# Altium footprint library Pulser Driver1.PcbLib: 50 footprints (part 1 of 4)
Each footprint in its own frame and in the unit in brackets; x right, y up, seen from the top. Pads: shape width x height; smd on the part's side, far side on the other; paste and mask are expansions set on the pad; w line width, h text height; cw(c..) or ccw(c..) is an arc to the next point about the centre after c.
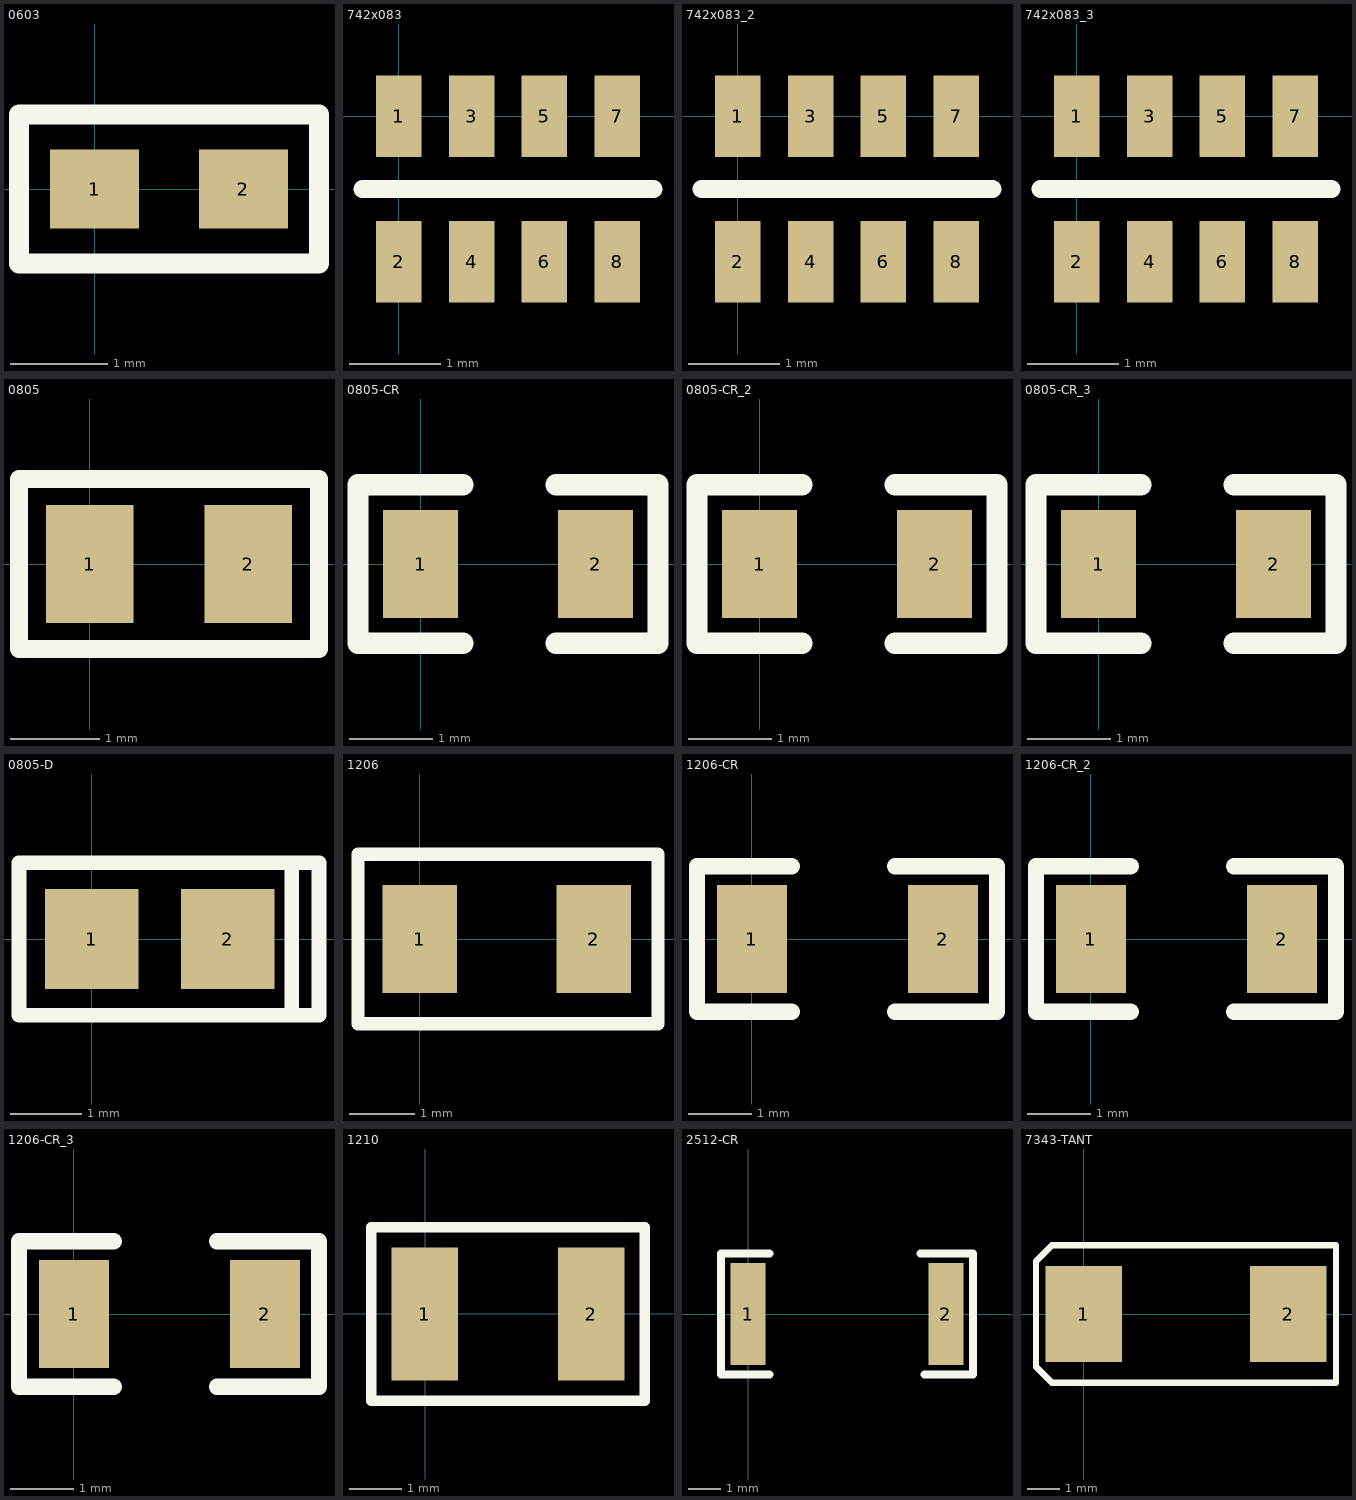
[diagram p0: the footprints below, top view; thin cyan lines are the x and y axes]

## 0603 [mil]
height 992.13
pads (2):
  rect 36x32 smd: 1(0,0) 2(60,0)
Top Overlay:
  lines w8: -30.5,-30 90.5,-30 90.5,30 -30.5,30 -30.5,-30

## 742x083 [mm] "742x083 4-Isolated Resistor Array"
height 0.55
pads (8):
  rect 0.5x0.9 smd: 1(0,0) 2(0,-1.6) 3(0.8,0) 4(0.8,-1.6) 5(1.6,0) 6(1.6,-1.6) 7(2.4,0) 8(2.4,-1.6)
Top Overlay:
  lines w0.203: -0.4,-0.8 2.8,-0.8

## 742x083_2 [mm]
pads (8):
  rect 0.5x0.9 smd: 1(0,0) 2(0,-1.6) 3(0.8,0) 4(0.8,-1.6) 5(1.6,0) 6(1.6,-1.6) 7(2.4,0) 8(2.4,-1.6)
Top Overlay:
  lines w0.203: -0.4,-0.8 2.8,-0.8

## 742x083_3 [mm]
pads (8):
  rect 0.5x0.9 smd: 1(0,0) 2(0,-1.6) 3(0.8,0) 4(0.8,-1.6) 5(1.6,0) 6(1.6,-1.6) 7(2.4,0) 8(2.4,-1.6)
Top Overlay:
  lines w0.203: -0.4,-0.8 2.8,-0.8

## 0805 [mil]
height 992.13
pads (2):
  rect 38.5x52 smd: 1(0,0) 2(70,0)
Top Overlay:
  lines w8: -31.25,-37.5 101.25,-37.5 101.25,37.5 -31.25,37.5 -31.25,-37.5

## 0805-CR [mm]
pads (2):
  rect 0.9x1.3 smd: 1(0,0) 2(2.1,0)
Top Overlay:
  lines w0.254: 0.508,-0.95 -0.75,-0.95 -0.75,0.95 0.508,0.95 ; 1.625,-0.95 2.85,-0.95 2.85,0.95 1.625,0.95

## 0805-CR_2 [mm]
pads (2):
  rect 0.9x1.3 smd: 1(0,0) 2(2.1,0)
Top Overlay:
  lines w0.254: 0.508,-0.95 -0.75,-0.95 -0.75,0.95 0.508,0.95 ; 1.625,-0.95 2.85,-0.95 2.85,0.95 1.625,0.95

## 0805-CR_3 [mm]
pads (2):
  rect 0.9x1.3 smd: 1(0,0) 2(2.1,0)
Top Overlay:
  lines w0.254: 0.508,-0.95 -0.75,-0.95 -0.75,0.95 0.508,0.95 ; 1.625,-0.95 2.85,-0.95 2.85,0.95 1.625,0.95

## 0805-D [mm]
pads (2):
  rect 1.3x1.4 smd: 1(0,0) 2(1.9,0)
Top Overlay:
  lines w0.2: -1.016,-1.067 3.175,-1.067 ; -1.016,1.067 3.175,1.067
  lines w0.203: -1.016,-1.067 -1.016,1.067 ; 2.794,-1.067 2.794,1.067 ; 3.175,-1.067 3.175,1.067

## 1206 [mil]
pads (2):
  rect 45x65 smd: 1(0,0) 2(105,0)
Top Overlay:
  lines w8: -37.4,-51.18 -37.4,51.18 143.7,51.18 143.7,-51.18 -37.4,-51.18

## 1206-CR [mm]
pads (2):
  rect 1.1x1.7 smd: 1(0,0) 2(3,0)
Top Overlay:
  lines w0.254: 0.625,-1.143 -0.862,-1.143 -0.862,1.143 0.625,1.143 ; 2.25,-1.143 3.85,-1.143 3.85,1.143 2.25,1.143

## 1206-CR_2 [mm]
pads (2):
  rect 1.1x1.7 smd: 1(0,0) 2(3,0)
Top Overlay:
  lines w0.254: 0.625,-1.143 -0.862,-1.143 -0.862,1.143 0.625,1.143 ; 2.25,-1.143 3.85,-1.143 3.85,1.143 2.25,1.143

## 1206-CR_3 [mm]
pads (2):
  rect 1.1x1.7 smd: 1(0,0) 2(3,0)
Top Overlay:
  lines w0.254: 0.625,-1.143 -0.862,-1.143 -0.862,1.143 0.625,1.143 ; 2.25,-1.143 3.85,-1.143 3.85,1.143 2.25,1.143

## 1210 [mm]
pads (2):
  rect 1.27x2.54 smd: 1(-0.007,0) 2(3.168,0)
Top Overlay:
  lines w0.203: -1.023,-1.651 -1.023,1.651 4.184,1.651 4.184,-1.651 -1.023,-1.651

## 2512-CR [mm]
pads (2):
  rect 1.1x3.2 smd: 1(0,0) 2(6.2,0)
Top Overlay:
  lines w0.254: 0.675,-1.9 -0.85,-1.9 -0.85,1.9 0.675,1.9 ; 5.4,1.9 7.05,1.9 7.05,-1.9 5.525,-1.9

## 7343-TANT [mm]
pads (2):
  rect 2.4x3 smd: 1(0,0) 2(6.4,0)
Top Overlay:
  lines w0.203: -1.5,-1.65 -1.5,-1.346 -1.5,1.321 -1.5,1.65 -1,2.15 7.9,2.15 7.9,-2.15 -1,-2.15 -1.5,-1.65